# Altium schematic symbol library SCH - BJT - ROHM NPN SC-75.SchLib: 1 symbol
Pins are listed as number, name and electrical type; pins without a type are passive.

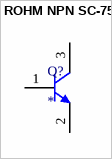
[diagram p0: symbol ROHM NPN SC-75]

## ROHM NPN SC-75
designator Q?
pins: 1 B, 2 E, 3 C